# Altium schematic symbol library MCU.SchLib: 3 symbols
Pins are listed as number, name and electrical type; pins without a type are passive.

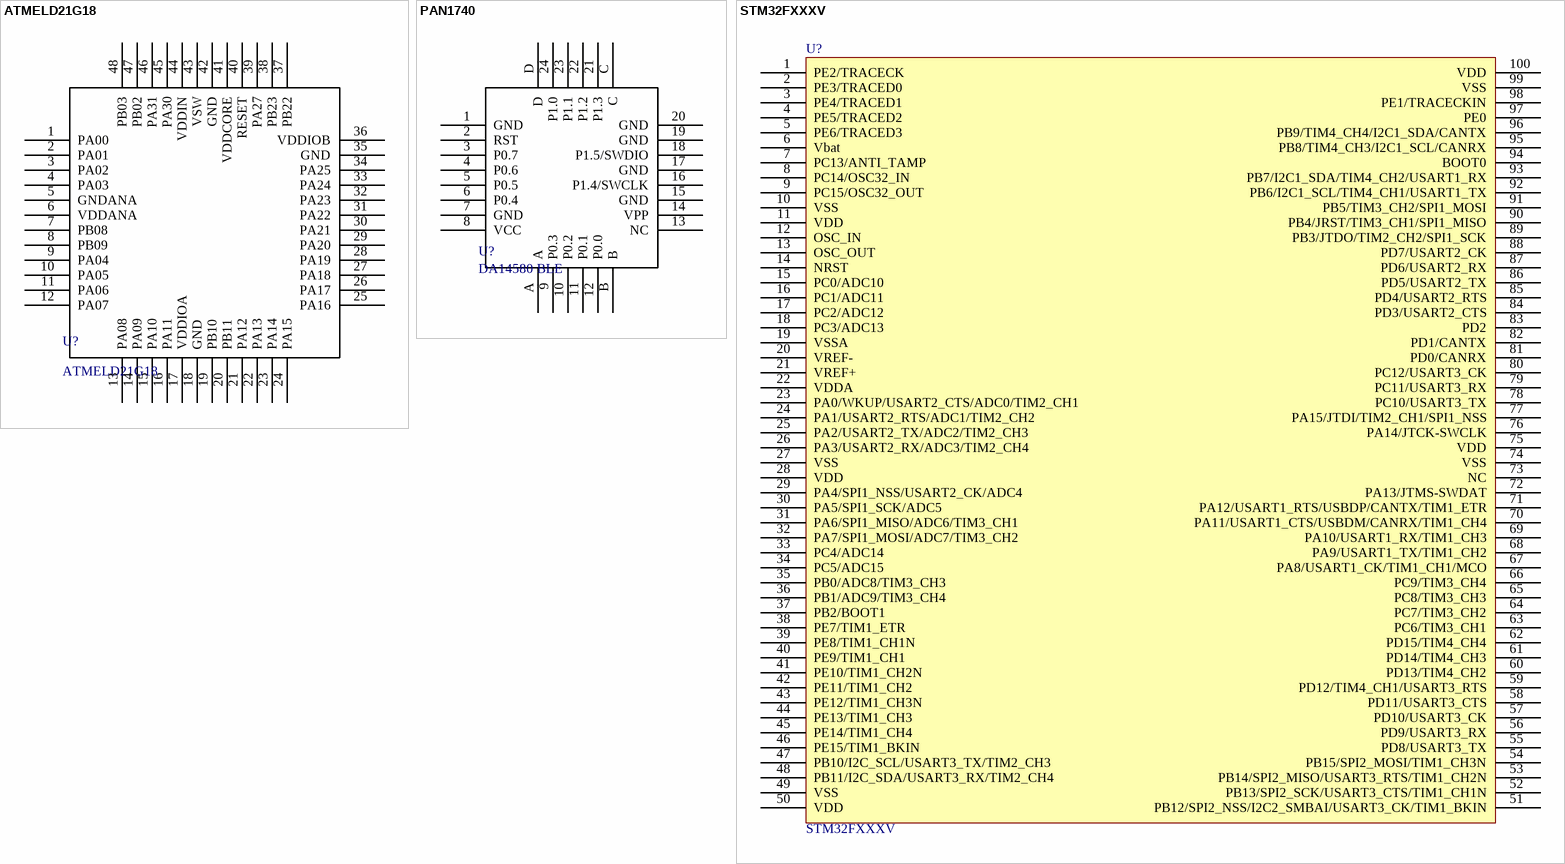
[diagram p0: symbols ATMELD21G18 to STM32FXXXV]

## ATMELD21G18
designator U?
ATMELD21G18A
footprint TQPF48 (F-QFP7x7-G48/N)
pins: 1 PA00 "My Pad", 2 PA01 "My Pad", 3 PA02 "My Pad", 4 PA03 "My Pad", 5 GNDANA "My Pad", 6 VDDANA "My Pad", 7 PB08 "My Pad", 8 PB09 "My Pad", 9 PA04 "My Pad", 10 PA05 "My Pad", 11 PA06 "My Pad", 12 PA07 "My Pad", 13 PA08 "My Pad", 14 PA09 "My Pad", 15 PA10 "My Pad", 16 PA11 "My Pad", 17 VDDIOA "My Pad", 18 GND "My Pad", 19 PB10 "My Pad", 20 PB11 "My Pad", 21 PA12 "My Pad", 22 PA13 "My Pad", 23 PA14 "My Pad", 24 PA15 "My Pad", 25 PA16 "My Pad", 26 PA17 "My Pad", 27 PA18 "My Pad", 28 PA19 "My Pad", 29 PA20 "My Pad", 30 PA21 "My Pad", 31 PA22 "My Pad", 32 PA23 "My Pad", 33 PA24 "My Pad", 34 PA25 "My Pad", 35 GND "My Pad", 36 VDDIOB "My Pad", 37 PB22 "My Pad", 38 PB23 "My Pad", 39 PA27 "My Pad", 40 RESET "My Pad", 41 VDDCORE "My Pad", 42 GND "My Pad", 43 VSW "My Pad", 44 VDDIN "My Pad", 45 PA30 "My Pad", 46 PA31 "My Pad", 47 PB02 "My Pad", 48 PB03 "My Pad"

## PAN1740
designator U?, comment DA14580 BLE
DA14580 BLE MODULE
footprint PAN1740 (DA14580 BLE MODULE)
pins: 1 GND "My Pad", 2 RST "My Pad", 3 P0.7 "My Pad", 4 P0.6 "My Pad", 5 P0.5 "My Pad", 6 P0.4 "My Pad", 7 GND "My Pad", 8 VCC "My Pad", 9 P0.3 "My Pad", 10 P0.2 "My Pad", 11 P0.1 "My Pad", 12 P0.0 "My Pad", 13 NC "My Pad", 14 VPP "My Pad", 15 GND "My Pad", 16 P1.4/SWCLK "My Pad", 17 GND "My Pad", 18 P1.5/SWDIO "My Pad", 19 GND "My Pad", 20 GND "My Pad", 21 P1.3 "My Pad", 22 P1.2 "My Pad", 23 P1.1 "My Pad", 24 P1.0 "My Pad", A "My Pad", B "My Pad", C "My Pad", D "My Pad"

## STM32FXXXV
designator U?
footprint LQFP-100
pins: 1 PE2/TRACECK, 2 PE3/TRACED0, 3 PE4/TRACED1, 4 PE5/TRACED2, 5 PE6/TRACED3, 6 Vbat, 7 PC13/ANTI_TAMP, 8 PC14/OSC32_IN, 9 PC15/OSC32_OUT, 10 VSS, 11 VDD, 12 OSC_IN, 13 OSC_OUT, 14 NRST, 15 PC0/ADC10, 16 PC1/ADC11, 17 PC2/ADC12, 18 PC3/ADC13, 19 VSSA, 20 VREF-, 21 VREF+, 22 VDDA, 23 PA0/WKUP/USART2_CTS/ADC0/TIM2_CH1, 24 PA1/USART2_RTS/ADC1/TIM2_CH2, 25 PA2/USART2_TX/ADC2/TIM2_CH3, 26 PA3/USART2_RX/ADC3/TIM2_CH4, 27 VSS, 28 VDD, 29 PA4/SPI1_NSS/USART2_CK/ADC4, 30 PA5/SPI1_SCK/ADC5, 31 PA6/SPI1_MISO/ADC6/TIM3_CH1, 32 PA7/SPI1_MOSI/ADC7/TIM3_CH2, 33 PC4/ADC14, 34 PC5/ADC15, 35 PB0/ADC8/TIM3_CH3, 36 PB1/ADC9/TIM3_CH4, 37 PB2/BOOT1, 38 PE7/TIM1_ETR, 39 PE8/TIM1_CH1N, 40 PE9/TIM1_CH1, 41 PE10/TIM1_CH2N, 42 PE11/TIM1_CH2, 43 PE12/TIM1_CH3N, 44 PE13/TIM1_CH3, 45 PE14/TIM1_CH4, 46 PE15/TIM1_BKIN, 47 PB10/I2C_SCL/USART3_TX/TIM2_CH3, 48 PB11/I2C_SDA/USART3_RX/TIM2_CH4, 49 VSS, 50 VDD, 51 PB12/SPI2_NSS/I2C2_SMBAI/USART3_CK/TIM1_BKIN, 52 PB13/SPI2_SCK/USART3_CTS/TIM1_CH1N, 53 PB14/SPI2_MISO/USART3_RTS/TIM1_CH2N, 54 PB15/SPI2_MOSI/TIM1_CH3N, 55 PD8/USART3_TX, 56 PD9/USART3_RX, 57 PD10/USART3_CK, 58 PD11/USART3_CTS, 59 PD12/TIM4_CH1/USART3_RTS, 60 PD13/TIM4_CH2, 61 PD14/TIM4_CH3, 62 PD15/TIM4_CH4, 63 PC6/TIM3_CH1, 64 PC7/TIM3_CH2, 65 PC8/TIM3_CH3, 66 PC9/TIM3_CH4, 67 PA8/USART1_CK/TIM1_CH1/MCO, 68 PA9/USART1_TX/TIM1_CH2, 69 PA10/USART1_RX/TIM1_CH3, 70 PA11/USART1_CTS/USBDM/CANRX/TIM1_CH4, 71 PA12/USART1_RTS/USBDP/CANTX/TIM1_ETR, 72 PA13/JTMS-SWDAT, 73 NC, 74 VSS, 75 VDD, 76 PA14/JTCK-SWCLK, 77 PA15/JTDI/TIM2_CH1/SPI1_NSS, 78 PC10/USART3_TX, 79 PC11/USART3_RX, 80 PC12/USART3_CK, 81 PD0/CANRX, 82 PD1/CANTX, 83 PD2, 84 PD3/USART2_CTS, 85 PD4/USART2_RTS, 86 PD5/USART2_TX, 87 PD6/USART2_RX, 88 PD7/USART2_CK, 89 PB3/JTDO/TIM2_CH2/SPI1_SCK, 90 PB4/JRST/TIM3_CH1/SPI1_MISO, 91 PB5/TIM3_CH2/SPI1_MOSI, 92 PB6/I2C1_SCL/TIM4_CH1/USART1_TX, 93 PB7/I2C1_SDA/TIM4_CH2/USART1_RX, 94 BOOT0, 95 PB8/TIM4_CH3/I2C1_SCL/CANRX, 96 PB9/TIM4_CH4/I2C1_SDA/CANTX, 97 PE0, 98 PE1/TRACECKIN, 99 VSS, 100 VDD